# Altium footprint library AXK680337YG.PcbLib: 1 footprints
Each footprint in its own frame and in the unit in brackets; x right, y up, seen from the top. Pads: shape width x height; smd on the part's side, far side on the other; paste and mask are expansions set on the pad; w line width, h text height; cw(c..) or ccw(c..) is an arc to the next point about the centre after c.
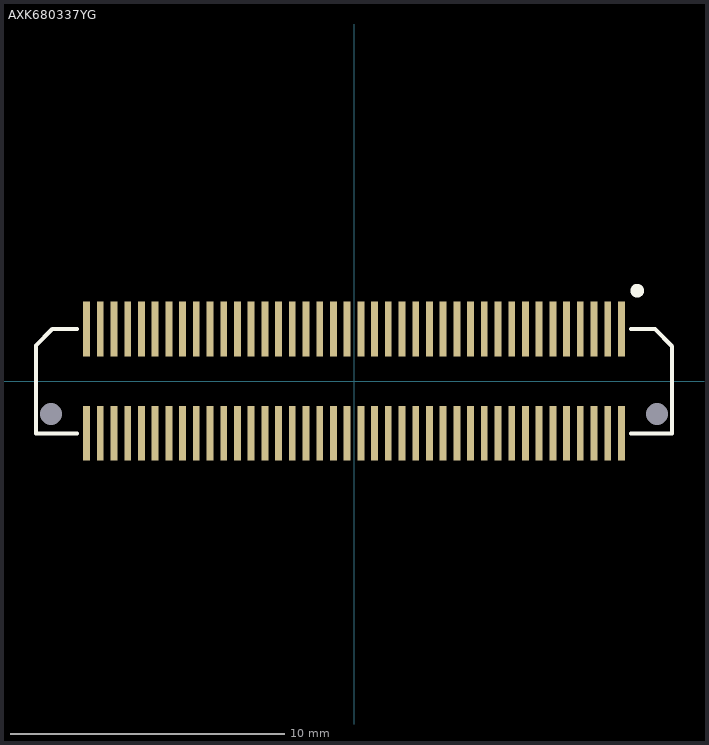
[diagram p0: the footprint, top view; thin cyan lines are the x and y axes]

## AXK680337YG [mm] "80-pin Header 0.5mm pitch"
pads (82):
  rect 0.25x2 smd: 1(9.75,1.9) 2(9.75,-1.9) 3(9.25,1.9) 4(9.25,-1.9) 5(8.75,1.9) 6(8.75,-1.9) 7(8.25,1.9) 8(8.25,-1.9) 9(7.75,1.9) 10(7.75,-1.9) 11(7.25,1.9) 12(7.25,-1.9) 13(6.75,1.9) 14(6.75,-1.9) 15(6.25,1.9) 16(6.25,-1.9) 17(5.75,1.9) 18(5.75,-1.9) 19(5.25,1.9) 20(5.25,-1.9) 21(4.75,1.9) 22(4.75,-1.9) 23(4.25,1.9) 24(4.25,-1.9) 25(3.75,1.9) 26(3.75,-1.9) 27(3.25,1.9) 28(3.25,-1.9) 29(2.75,1.9) 30(2.75,-1.9) 31(2.25,1.9) 32(2.25,-1.9) 33(1.75,1.9) 34(1.75,-1.9) 35(1.25,1.9) 36(1.25,-1.9) 37(0.75,1.9) 38(0.75,-1.9) 39(0.25,1.9) 40(0.25,-1.9) 41(-0.25,1.9) 42(-0.25,-1.9) 43(-0.75,1.9) 44(-0.75,-1.9) 45(-1.25,1.9) 46(-1.25,-1.9) 47(-1.75,1.9) 48(-1.75,-1.9) 49(-2.25,1.9) 50(-2.25,-1.9) 51(-2.75,1.9) 52(-2.75,-1.9) 53(-3.25,1.9) 54(-3.25,-1.9) 55(-3.75,1.9) 56(-3.75,-1.9) 57(-4.25,1.9) 58(-4.25,-1.9) 59(-4.75,1.9) 60(-4.75,-1.9) 61(-5.25,1.9) 62(-5.25,-1.9) 63(-5.75,1.9) 64(-5.75,-1.9) 65(-6.25,1.9) 66(-6.25,-1.9) 67(-6.75,1.9) 68(-6.75,-1.9) 69(-7.25,1.9) 70(-7.25,-1.9) 71(-7.75,1.9) 72(-7.75,-1.9) 73(-8.25,1.9) 74(-8.25,-1.9) 75(-8.75,1.9) 76(-8.75,-1.9) 77(-9.25,1.9) 78(-9.25,-1.9) 79(-9.75,1.9) 80(-9.75,-1.9)
  round 0 hole 0.8: ""(-11.05,-1.2) ""(11.05,-1.2)
Top Overlay:
  circle w0.254: c10.325,3.3 r0.125
  lines w0.15: -10.1,-1.9 -11.6,-1.9 -11.6,0.7 -11.6,1.3 -11,1.9 -10.1,1.9 ; 10.1,-1.9 11.6,-1.9 11.6,0.7 11.6,1.275 10.975,1.9 10.1,1.9
3D body "AXK680337YG.step": height 2.41, standoff 0, extent -11.603,-2.301 11.597,2.299